# EAGLE library part M5AMIGO (library m5amigo)
M5stack's M-BUS board skelton
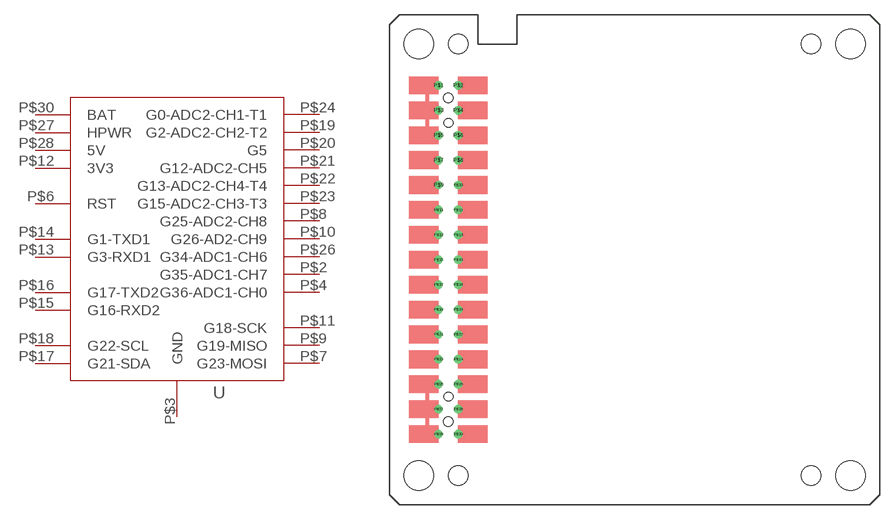
[diagram p0: symbol with the pads of M5AMIGO; footprint M5AMIGO]

Designator prefix U

## M5AMIGO  [M5AMIGO]
P$2  G35-ADC1-CH7
P$3  GND
P$4  G36-ADC1-CH0
P$6  RST
P$7  G23-MOSI
P$8  G25-ADC2-CH8
P$9  G19-MISO
P$10  G26-AD2-CH9
P$11  G18-SCK
P$12  3V3
P$13  G3-RXD1
P$14  G1-TXD1
P$15  G16-RXD2
P$16  G17-TXD2
P$17  G21-SDA
P$18  G22-SCL
P$19  G2-ADC2-CH2-T2
P$20  G5
P$21  G12-ADC2-CH5
P$22  G13-ADC2-CH4-T4
P$23  G15-ADC2-CH3-T3
P$24  G0-ADC2-CH1-T1
P$26  G34-ADC1-CH6
P$27  HPWR
P$28  5V
P$30  BAT

## Footprint M5AMIGO (pad centres in mm)
M5stack's M-BUS board skelton
drill 0.35: P$1 5,42.78; P$2 7,42.78; P$3 5,40.24; P$4 7,40.24; P$5 5,37.7; P$6 7,37.7; P$7 5,35.16; P$8 7,35.16; P$9 5,32.62; P$10 7,32.62; P$11 5,30.08; P$12 7,30.08; P$13 5,27.54; P$14 7,27.54; P$15 5,25; P$16 7,25; P$17 5,22.46; P$18 7,22.46; P$19 5,19.92; P$20 7,19.92; P$21 5,17.38; P$22 7,17.38; P$23 5,14.84; P$24 7,14.84; P$25 5,12.3; P$26 7,12.3; P$27 5,9.75; P$28 7,9.75; P$29 5,7.21; P$30 7,7.21
hole 0.9 at 6,38.97
hole 0.9 at 6,11.03
hole 1 at 6,41.51
hole 1 at 6,8.49
hole 3 at 3,3
hole 3 at 47,3
hole 3 at 47,47
hole 3 at 3,47
hole 2 at 7,47
hole 2 at 43,47
hole 2 at 43,3
hole 2 at 7,3